# EAGLE library part 1X9 (library headers(2mm))
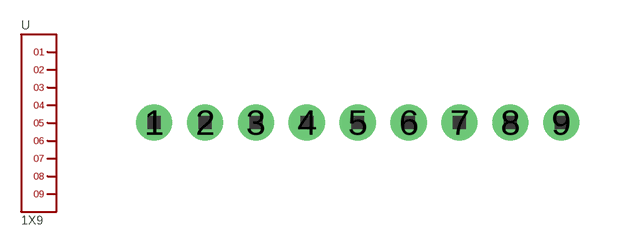
[diagram p11: symbol with the pads of 1X9; footprint 1X9]

Designator prefix -

## 1X9  [1X9]
1  1
2  2
3  3
4  4
5  5
6  6
7  7
8  8
9  9

## Footprint 1X9 (pad centres in mm)
drill 0.8 pad 1.422: 1 0,0; 2 2,0; 3 4,0; 4 6,0; 5 8,0; 6 10,0; 7 12,0; 8 14,0; 9 16,0